# Altium footprint library Leadless Chip Carrier - Rectangle.PcbLib: 5 footprints
Each footprint in its own frame and in the unit in brackets; x right, y up, seen from the top. Pads: shape width x height; smd on the part's side, far side on the other; paste and mask are expansions set on the pad; w line width, h text height; cw(c..) or ccw(c..) is an arc to the next point about the centre after c.
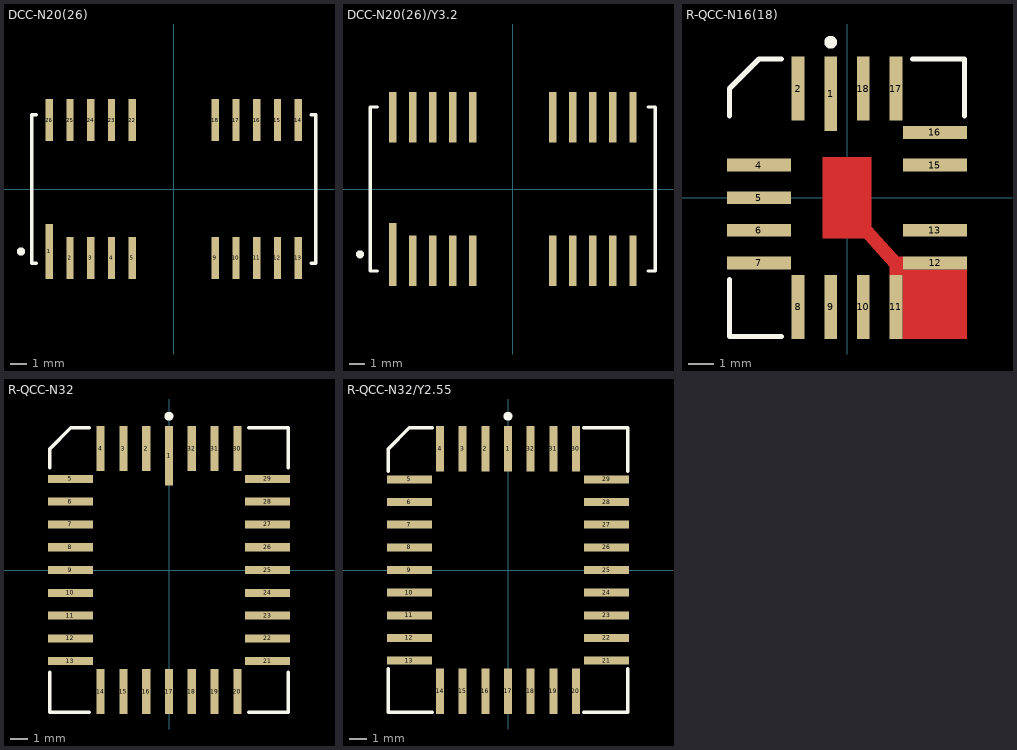
[diagram p0: the footprints below, top view; thin cyan lines are the x and y axes]

## DCC-N20(26) [mm] "Leadless Chip Carrier; 20 Terminals; Body 8.9 x 17.1 mm"
height 2.03
pads (20):
  rect 0.45x3.35 smd: 1(-7.62,-3.825)
  rect 0.45x2.55 smd: 2(-6.35,-4.225) 3(-5.08,-4.225) 4(-3.81,-4.225) 5(-2.54,-4.225) 9(2.54,-4.225) 10(3.81,-4.225) 11(5.08,-4.225) 12(6.35,-4.225) 13(7.62,-4.225) 14(7.62,4.225) 15(6.35,4.225) 16(5.08,4.225) 17(3.81,4.225) 18(2.54,4.225) 22(-2.54,4.225) 23(-3.81,4.225) 24(-5.08,4.225) 25(-6.35,4.225) 26(-7.62,4.225)
Top Overlay:
  circle w0.25: c-9.35,-3.825 r0.125
  lines w0.2: -8.4,-4.55 -8.7,-4.55 -8.7,4.55 -8.4,4.55 ; 8.4,-4.55 8.7,-4.55 8.7,4.55 8.4,4.55

## DCC-N20(26)/Y3.2 [mm] "Leadless Chip Carrier; 20 Terminals; Body 10.2 x 17.8 mm"
height 2.34
pads (20):
  rect 0.45x4 smd: 1(-7.62,-4.15)
  rect 0.45x3.2 smd: 2(-6.35,-4.55) 3(-5.08,-4.55) 4(-3.81,-4.55) 5(-2.54,-4.55) 9(2.54,-4.55) 10(3.81,-4.55) 11(5.08,-4.55) 12(6.35,-4.55) 13(7.62,-4.55) 14(7.62,4.55) 15(6.35,4.55) 16(5.08,4.55) 17(3.81,4.55) 18(2.54,4.55) 22(-2.54,4.55) 23(-3.81,4.55) 24(-5.08,4.55) 25(-6.35,4.55) 26(-7.62,4.55)
Top Overlay:
  circle w0.25: c-9.7,-4.15 r0.125
  lines w0.2: -8.6,-5.2 -9.05,-5.2 -9.05,5.2 -8.6,5.2 ; 8.6,-5.2 9.05,-5.2 9.05,5.2 8.6,5.2

## R-QCC-N16(18) [mm] "Leadless Chip Carrier; 18 Terminals; Body 7.3 x 9 mm"
height 2.93
pads (16):
  rect 0.5x2.9 smd: 1(-0.635,4.05)
  rect 0.5x2.5 smd: 2(-1.905,4.25) 8(-1.905,-4.25) 9(-0.635,-4.25) 10(0.635,-4.25) 11(1.905,-4.25) 17(1.905,4.25) 18(0.635,4.25)
  rect 2.5x0.5 smd: 4(-3.429,1.27) 5(-3.429,0) 6(-3.429,-1.27) 7(-3.429,-2.54) 12(3.429,-2.54) 13(3.421,-1.27) 15(3.421,1.27) 16(3.421,2.54)
Top Layer:
  rectangle: 2.155,-5.5 4.679,-2.79
  region: 0.954,-1.597 0.954,1.578 -0.951,1.578 -0.951,-1.597
  rectangle: 1.655,-3 2.178,-2.29
  region: 0.93,-1.092 0.532,-1.45 1.683,-2.728 2.081,-2.37
Top Overlay:
  circle w0.25: c-0.634,6.052 r0.125
  lines w0.2: -4.575,-3.19 -4.575,-5.402 -2.555,-5.402 ; -4.575,3.19 -4.575,4.25 -3.429,5.398 -2.555,5.398 ; 2.555,5.398 4.575,5.398 4.574,3.19

## R-QCC-N32 [mm] "Leadless Chip Carrier, Ceramic, Window; 32 Terminals; Body 11.4 x 14 mm"
height 2.28
pads (32):
  rect 0.45x3.3 smd: 1(0,6.375)
  rect 0.45x2.5 smd: 2(-1.27,6.775) 3(-2.54,6.775) 4(-3.81,6.775) 14(-3.81,-6.775) 15(-2.54,-6.775) 16(-1.27,-6.775) 17(0,-6.775) 18(1.27,-6.775) 19(2.54,-6.775) 20(3.81,-6.775) 30(3.81,6.775) 31(2.54,6.775) 32(1.27,6.775)
  rect 2.5x0.45 smd: 5(-5.5,5.08) 6(-5.5,3.81) 7(-5.5,2.54) 8(-5.5,1.27) 9(-5.5,0) 10(-5.5,-1.27) 11(-5.5,-2.54) 12(-5.5,-3.81) 13(-5.5,-5.08) 21(5.5,-5.08) 22(5.5,-3.81) 23(5.5,-2.54) 24(5.5,-1.27) 25(5.5,0) 26(5.5,1.27) 27(5.5,2.54) 28(5.5,3.81) 29(5.5,5.08)
Top Overlay:
  circle w0.25: c0,8.575 r0.125
  lines w0.2: -6.65,-5.7 -6.65,-7.925 -4.46,-7.925 ; -6.65,5.7 -6.65,6.75 -5.48,7.925 -4.46,7.925 ; 4.46,-7.925 6.65,-7.925 6.65,-5.7 ; 4.46,7.925 6.65,7.925 6.65,5.7

## R-QCC-N32/Y2.55 [mm] "Leadless Chip Carrier; 32 Terminals; Body 11.4 x 14 mm"
height 2.29
pads (32):
  rect 0.45x2.55 smd: 1(0,6.8) 2(-1.27,6.8) 3(-2.54,6.8) 4(-3.81,6.8) 14(-3.81,-6.8) 15(-2.54,-6.8) 16(-1.27,-6.8) 17(0,-6.8) 18(1.27,-6.8) 19(2.54,-6.8) 20(3.81,-6.8) 30(3.81,6.8) 31(2.54,6.8) 32(1.27,6.8)
  rect 2.55x0.45 smd: 5(-5.525,5.08) 6(-5.525,3.81) 7(-5.525,2.54) 8(-5.525,1.27) 9(-5.525,0) 10(-5.525,-1.27) 11(-5.525,-2.54) 12(-5.525,-3.81) 13(-5.525,-5.08) 21(5.525,-5.08) 22(5.525,-3.81) 23(5.525,-2.54) 24(5.525,-1.27) 25(5.525,0) 26(5.525,1.27) 27(5.525,2.54) 28(5.525,3.81) 29(5.525,5.08)
Top Overlay:
  circle w0.25: c0,8.625 r0.125
  lines w0.2: -6.705,-5.53 -6.705,-7.975 -4.26,-7.975 ; -6.705,5.53 -6.705,6.8 -5.53,7.975 -4.26,7.975 ; 4.26,-7.975 6.705,-7.975 6.705,-5.53 ; 4.26,7.975 6.705,7.975 6.705,5.53